# Altium schematic symbol library DST800_NMEA2k-CAN_Indicator.SCHLIB: 17 symbols
Pins are listed as number, name and electrical type; pins without a type are passive.

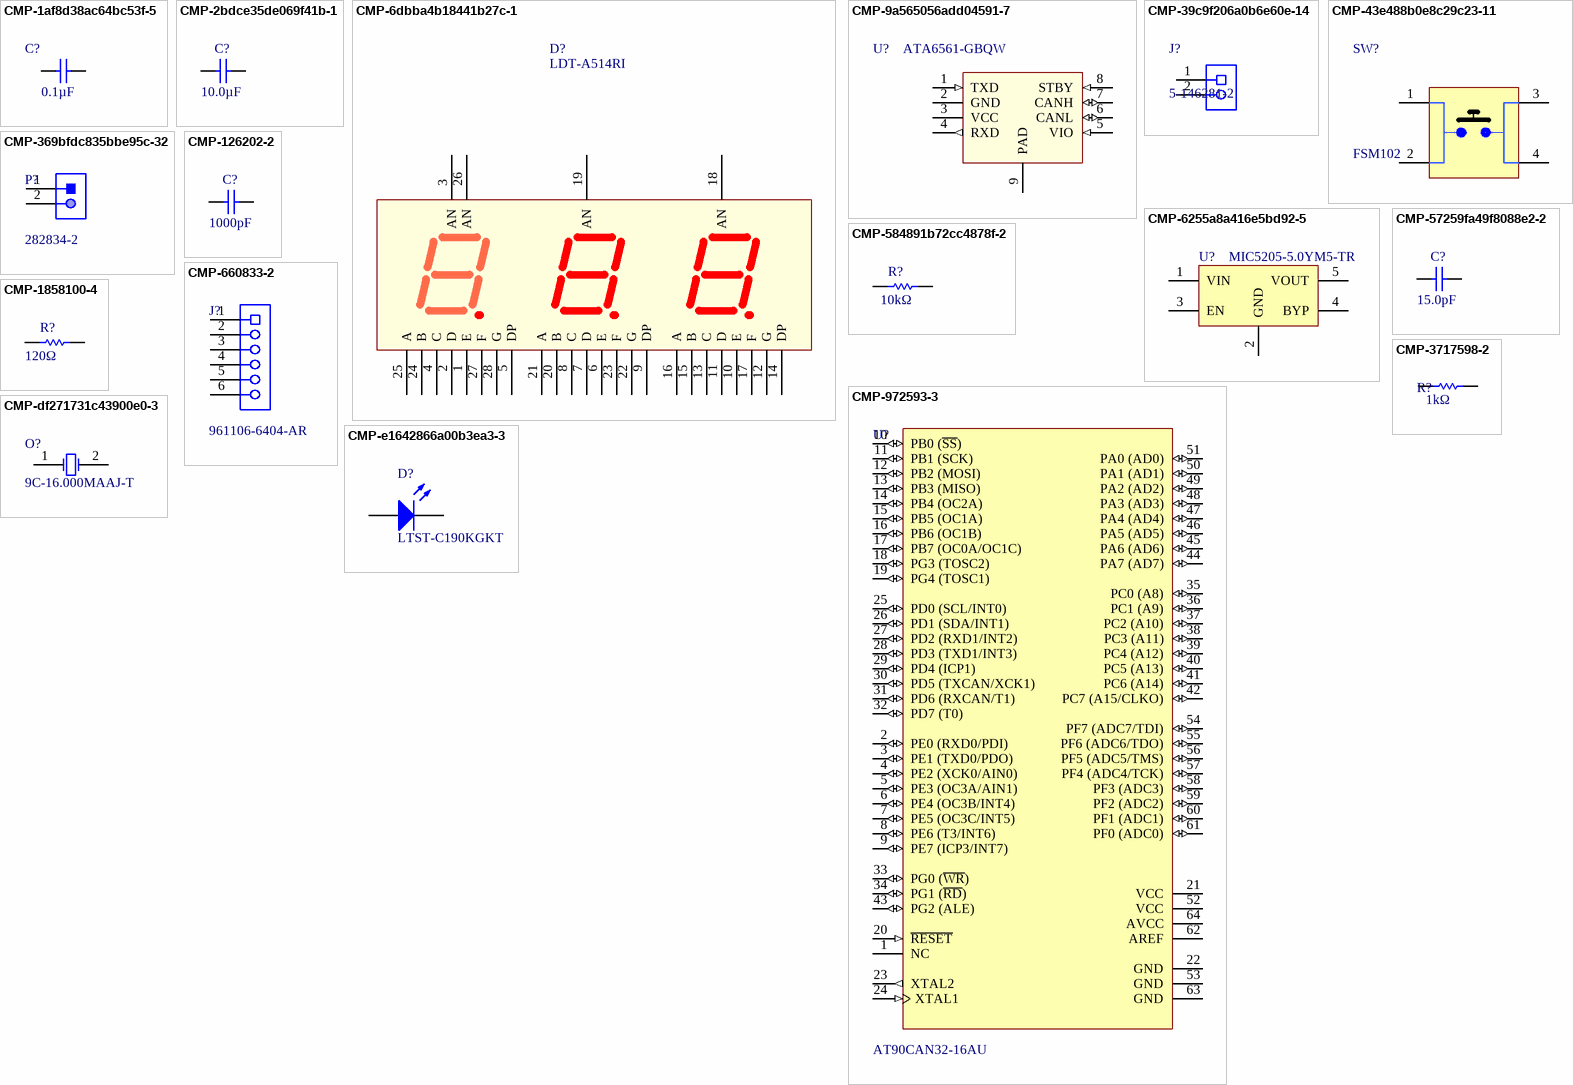
[diagram p0: symbols CMP-1af8d38ac64bc53f-5 to CMP-e1642866a00b3ea3-3]

## CMP-1af8d38ac64bc53f-5
designator C?, comment value 0.1µF  (hidden comment: CL10B104KB8NNNC)
CAP CER 0.1uF 50V X7R 0603; Manufacturer: Samsung Electro-Mechanics; Octopart URL: https://octopart.com/cl10b104kb8nnnc-samsung-7928277; OctopartID: 1af8d38ac64bc53f; Mounting Type: SMT; ManufacturerPartNumber: CL10B104KB8NNNC; Type: X7R; Supplier 1: Digi-Key; Supplier Part Number 1: 1276-1000-1-ND
footprint PCB-mhhqftc5ilnrg4qi8ds6-1 (Footprint - CL10B104KB8NNNC)
pins: 1, 2

## CMP-2bdce35de069f41b-1
designator C?, comment value 10.0µF  (hidden comment: C3225X7R1E106K250AC)
CAP CER 10uF ±10% 25V X7R 1210; Manufacturer: TDK; Case/Package: 1210; OctopartID: 2bdce35de069f41b; Octopart URL: http://octopart.com/c3225x7r1e106k250ac-tdk-25947859; ManufacturerPartNumber: C3225X7R1E106K250AC; Mounting Type: SMT; Type: X7R; Supplier 1: Digi-Key; Supplier Part Number 1: 445-3942-1-ND
footprint PCB-j0jk5xr8qbnaskonccg4-1 (Footprint - TDK C3225X7R1E106K250AC)
pins: 1, 2

## CMP-6dbba4b18441b27c-1
designator D?, comment LDT-A514RI
Display 3-digit 7-Seg 0.56 in; Manufacturer: Lumex; Octopart URL: http://octopart.com/ldt-a514ri-lumex-52380; ManufacturerPartNumber: LDT-A514RI; Case/Package: DIP; OctopartID: 6dbba4b18441b27c; Mounting Type: TH; Supplier 1: Digi-Key; Supplier Part Number 1: 67-1423-ND
footprint LDTA514RI (Lumex 2 digit 7 segment display)
pins: 1 E, 2 D, 3 AN, 4 C, 5 DP, 6 E, 7 D, 8 C, 9 DP, 10 E, 11 D, 12 G, 13 C, 14 DP, 15 B, 16 A, 17 F, 18 AN, 19 AN, 20 B, 21 A, 22 G, 23 F, 24 B, 25 A, 26 AN, 27 F, 28 G

## CMP-9a565056add04591-7
designator U?, comment ATA6561-GBQW
IC Transeiver CAN 5Mbps 8-Pin VDFN EP; Manufacturer: Microchip; ManufacturerPartNumber: ATA6561-GBQW; OctopartID: 9a565056add04591; Octopart URL: http://octopart.com/ata6561-gbqw-atmel-50991840; Mounting Type: SMT; Supplier 1: Digi-Key; Supplier Part Number 1: ATA6561-GBQWCT-ND
footprint PCB_8-PinVDFN
pins: 1 TXD (in), 2 GND (power), 3 VCC (power), 4 RXD (out), 5 VIO (in), 6 CANL (io), 7 CANH (io), 8 STBY (in), 9 PAD (power)

## CMP-39c9f206a0b6e60e-14
designator J?, comment 5-146281-2
CONN HEADER VERT 2POS Single 0.1in pitch; Manufacturer: TE Connectivity; ManufacturerPartNumber: 5-146281-2; OctopartID: 39c9f206a0b6e60e; Mounting Type: TH; Supplier 1: Digi-Key; Supplier Part Number 1: A121481-ND
footprint PCB-angfy19quc8nc8nc7d0m-1 (Footprint - TE Connectivity 5-146281-2)
pins: 1, 2

## CMP-43e488b0e8c29c23-11
designator SW?, comment FSM102
PUSHBUTTON Momentary Tactile SPST Thru-Hole; Manufacturer: TE Connectivity; ManufacturerPartNumber: FSM102; OctopartID: 43e488b0e8c29c23; Mounting Type: TH; Supplier 1: Digi-Key; Supplier Part Number 1: 450-1128-ND
footprint PCB-8ps4wla3pj92cxv2yuvu-1 (Footprint - TE Connectivity FSM102)
pins: 1, 2, 3, 4

## CMP-369bfdc835bbe95c-32
designator P?, comment 282834-2
CONN Terminal Block; 16-30 AWG 0.197 in; Manufacturer: TE Connectivity; Octopart URL: https://octopart.com/282836-2-te+connectivity-39396934; ManufacturerPartNumber: 282834-2; Mounting Type: TH; Supplier 1: Digi-Key; Supplier Part Number 1: A98333-ND
footprint PCB-0kdx5sneyudsmu18l6zv-1 (Footprint - TE Connectivity 282836-2)
pins: 1, 2

## CMP-6255a8a416e5bd92-5
designator U?, comment MIC5205-5.0YM5-TR
IC Regulator LDO 5 V Fixed Output 150 mA SOT-23-5; Manufacturer: Microchip; Octopart URL: https://octopart.com/mic5205-5.0ym5-tr-microchip-66802134; ManufacturerPartNumber: MIC5205-5.0YM5-TR; Mounting Type: SMT; Supplier 1: Digi-Key; Supplier Part Number 1: 576-1261-1-ND
footprint SOT-23-5_N (Footprint - Microchip MIC5205-5.0YM5-TR)
pins: 1 VIN, 2 GND, 3 EN, 4 BYP, 5 VOUT

## CMP-57259fa49f8088e2-2
designator C?, comment value 15.0pF  (hidden comment: C1608C0G1H150J080AA)
CAP CER 15pF ±5% 50V C0G/NP0 0603 [1608]; Manufacturer: TDK; Type: C0G/NP0; Octopart URL: https://octopart.com/c1608c0g1h150j080aa-tdk-25947587; OctopartID: 57259fa49f8088e2; ManufacturerPartNumber: C1608C0G1H150J080AA; Mounting Type: SMT; Supplier 1: Digi-Key; Supplier Part Number 1: 445-1271-1-ND
footprint PCB-69ec8bfnjhyebnpbrrfx-1 (Footprint - TDK C1608C0G1H150J080AA)
pins: 1, 2

## CMP-126202-2
designator C?, comment value 1000pF  (hidden comment: 06031C102MAT2A)
CAP CER 1000pF ±20% 100V X7R 0603; Manufacturer: AVX; ManufacturerPartNumber: 06031C102MAT2A; Tolerance: ±20%; Case/Package: 0603; Type: X7R; Octopart Url: https://octopart.com/06031c102mat2a-avx+interconnect+%2F+elco-195738; OctopartID: 2b04e20cf2f8f4c3; Mounting Type: SMT; Supplier 1: Digi-Key; Supplier Part Number 1: 478-3699-1-ND
footprint CAPC1608X90X35LL15T15
pins: 1, 2
1 alternate drawing of the same symbol

## CMP-584891b72cc4878f-2
designator R?, comment value 10kΩ  (hidden comment: CRG0603F10K)
RES 10K 1% 0.1W 0603; Manufacturer: TE Connectivity; Case/Package: 0603; Octopart URL: http://octopart.com/crg0603f10k-te+connectivity-16077290; OctopartID: 584891b72cc4878f; Power Rating: 0.1 W; ManufacturerPartNumber: CRG0603F10K; Mounting Type: SMT; Supplier 1: Digi-Key; Supplier Part Number 1: A106048CT-ND
footprint RESC1608X55X30NL15T15
pins: 1, 2

## CMP-660833-2
designator J?, comment 961106-6404-AR
CONN HEADER VERT 6POS Single 0.1in pitch; Manufacturer: 3M; Octopart Url: https://octopart.com/961106-6404-ar-3m-14400736; OctopartID: f2bb3b6a6b3d2d7c; ManufacturerPartNumber: 961106-6404-AR; Mounting Type: TH; Supplier 1: Digi-Key; Supplier Part Number 1: 3M9457-06-ND
footprint PCB-660833-1 (Footprint - 3M 961106-6404-AR)
pins: 1, 2, 3, 4, 5, 6

## CMP-972593-3
designator U?, comment AT90CAN32-16AU
IC Microcontroller 8-bit AVR 32KB Flash CAN Controller 53GPIO 64-pin LQFP; Manufacturer: Microchip; Case/Package: TQFP; Octopart Url: https://octopart.com/at90can32-16au-atmel-39961781; OctopartID: ffbd34d61e6e207a; ManufacturerPartNumber: AT90CAN32-16AU; Mounting Type: SMT; Supplier 1: Digi-Key; Supplier Part Number 1: AT90CAN32-16AU-ND
footprint 64A_L (Thin QFP, 64-Leads, Body 14x14mm, Pitch 0.8mm, IPC High Density)
pins: 1 NC, 2 PE0 (RXD0/PDI) (io), 3 PE1 (TXD0/PDO) (io), 4 PE2 (XCK0/AIN0) (io), 5 PE3 (OC3A/AIN1) (io), 6 PE4 (OC3B/INT4) (io), 7 PE5 (OC3C/INT5) (io), 8 PE6 (T3/INT6) (io), 9 PE7 (ICP3/INT7) (io), 10 PB0 (~{SS}) (io), 11 PB1 (SCK) (io), 12 PB2 (MOSI) (io), 13 PB3 (MISO) (io), 14 PB4 (OC2A) (io), 15 PB5 (OC1A) (io), 16 PB6 (OC1B) (io), 17 PB7 (OC0A/OC1C) (io), 18 PG3 (TOSC2) (io), 19 PG4 (TOSC1) (io), 20 ~{RESET} (in), 21 VCC (power), 22 GND (power), 23 XTAL2 (out), 24 XTAL1 (in), 25 PD0 (SCL/INT0) (io), 26 PD1 (SDA/INT1) (io), 27 PD2 (RXD1/INT2) (io), 28 PD3 (TXD1/INT3) (io), 29 PD4 (ICP1) (io), 30 PD5 (TXCAN/XCK1) (io), 31 PD6 (RXCAN/T1) (io), 32 PD7 (T0) (io), 33 PG0 (~{WR}) (io), 34 PG1 (~{RD}) (io), 35 PC0 (A8) (io), 36 PC1 (A9) (io), 37 PC2 (A10) (io), 38 PC3 (A11) (io), 39 PC4 (A12) (io), 40 PC5 (A13) (io), 41 PC6 (A14) (io), 42 PC7 (A15/CLKO) (io), 43 PG2 (ALE) (io), 44 PA7 (AD7) (io), 45 PA6 (AD6) (io), 46 PA5 (AD5) (io), 47 PA4 (AD4) (io), 48 PA3 (AD3) (io), 49 PA2 (AD2) (io), 50 PA1 (AD1) (io), 51 PA0 (AD0) (io), 52 VCC (power), 53 GND (power), 54 PF7 (ADC7/TDI) (io), 55 PF6 (ADC6/TDO) (io), 56 PF5 (ADC5/TMS) (io), 57 PF4 (ADC4/TCK) (io), 58 PF3 (ADC3) (io), 59 PF2 (ADC2) (io), 60 PF1 (ADC1) (io), 61 PF0 (ADC0) (io), 62 AREF (power), 63 GND (power), 64 AVCC (power)

## CMP-1858100-4
designator R?, comment value 120Ω  (hidden comment: CRCW1206120RJNEA)
RES Thick Film 120ohm 5% 1/4W 1206; Manufacturer: Vishay; Power Rating: 0.25 W; Octopart Url: https://octopart.com/crcw1206120rjnea-vishay+dale-39437323; Case/Package: 1206[3216]; OctopartID: 57d69c85b6bb8811; ManufacturerPartNumber: CRCW1206120RJNEA; Mounting Type: SMT; Tolerance: ±5%; Type: Thick; Supplier 1: Digi-Key; Supplier Part Number 1: 541-120ECT-ND
footprint RESC3216X60X45LL10T20
pins: 1, 2
1 alternate drawing of the same symbol

## CMP-3717598-2
designator R?, comment value 1kΩ  (hidden comment: ERA-3YEB102V)
RES Metal Film 1Kohm 0.1%  0603; Manufacturer: Panasonic; Power Rating: 0.063 W; Octopart Url: https://octopart.com/era-3yeb102v-panasonic-55477313; OctopartID: 4ba281e6ea859465; ManufacturerPartNumber: ERA-3YEB102V; Mounting Type: SMT; Tolerance: ±0.1%; Type: Metal; Supplier 1: Digi-Key; Supplier Part Number 1: P1.0KYCT-ND
footprint RESC1608X55X30NL20T20
pins: 1, 2
1 alternate drawing of the same symbol

## CMP-df271731c43900e0-3
designator O?, comment 9C-16.000MAAJ-T
Crystal 16MHz 30ppm  18pF  HC-49/S SMD; Manufacturer: TXC CORPORATION; OctopartID: df271731c43900e0; ManufacturerPartNumber: 9C-16.000MAAJ-T; Octopart URL: http://octopart.com/9c-16.000maaj-t-txc-18628216; Mounting Type: SMT; Supplier 1: Digi-Key; Supplier Part Number 1: 887-1059-1-ND
footprint PCB-3qvzojcyidn2gltqqmbl-1 (Footprint - TXC 9C-16.000MAAJ-T)
pins: 1 X1, 2 X2

## CMP-e1642866a00b3ea3-3
designator D?, comment LTST-C190KGKT
LED 0603 green; Manufacturer: Lite-On; ManufacturerPartNumber: LTST-C190KGKT; Octopart URL: http://octopart.com/ltst-c190kgkt-lite-on-549897; OctopartID: e1642866a00b3ea3; Case/Package: 0603; Mounting Type: SMT; Supplier 1: Digi-Key; Supplier Part Number 1: 160-1435-1-ND
footprint PCB-eapfwhp0rnksgujf96h3-1 (Footprint - Lite-On LTST-C190KGKT)
pins: 1 A, 2 K